# Altium footprint library Capacitors.PcbLib: 9 footprints
Each footprint in its own frame and in the unit in brackets; x right, y up, seen from the top. Pads: shape width x height; smd on the part's side, far side on the other; paste and mask are expansions set on the pad; w line width, h text height; cw(c..) or ccw(c..) is an arc to the next point about the centre after c.
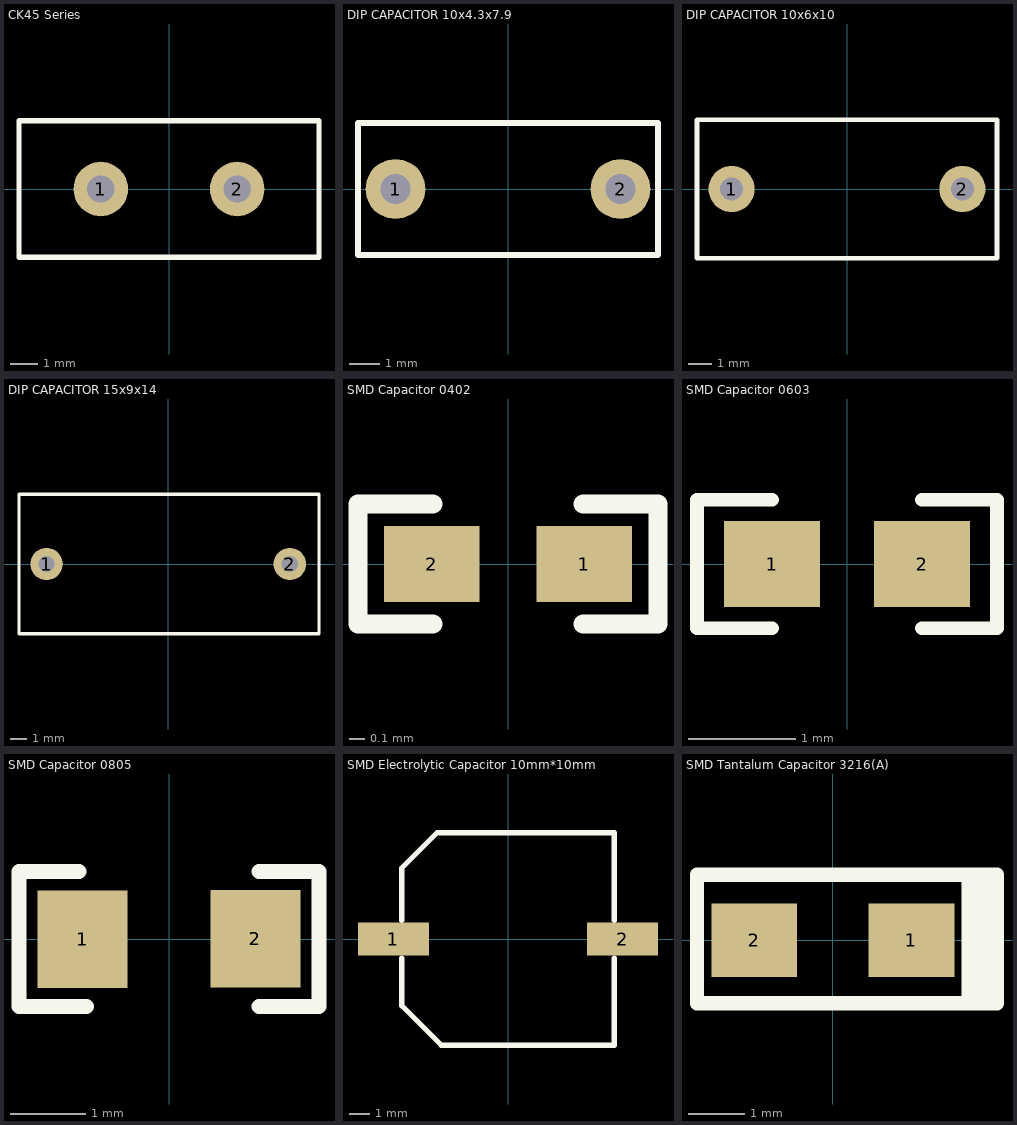
[diagram p0: the footprints below, top view; thin cyan lines are the x and y axes]

## CK45 Series [mm] "CK45 Series Pitch 5.0mm"
pads (2):
  round 2 hole 1: 1(-2.5,0) 2(2.5,0)
Top Overlay:
  lines w0.2: -5.5,-2.5 5.5,-2.5 5.5,2.5 -5.5,2.5 -5.5,-2.5
3D body "CK45 Series.STEP": height 12.5, standoff -5, extent -5.496,-2.5 5.497,2.5

## DIP CAPACITOR 10x4.3x7.9 [mm] "DIP 10x4.3x7.9"
pads (2):
  round 2 hole 1: 1(-3.75,0) 2(3.75,0)
Top Overlay:
  lines w0.2: -5,-2.2 5,-2.2 5,2.2 -5,2.2 -5,-2.2
3D body "DIP CAPACITOR 10x4.3x7.9.STEP": height 7.9, standoff -3, extent -5,-2.2 5,2.1

## DIP CAPACITOR 10x6x10 [mm] "DIP 10x6x10"
pads (2):
  round 2 hole 1: 1(-5,0) 2(5,0)
Top Overlay:
  lines w0.2: -6.5,-3 -6.5,3 6.5,3 6.5,-3 -6.5,-3
3D body "DIP CAPACITOR 10x6x10.STEP": height 10.92, standoff -3, extent -6.375,-3 6.375,3

## DIP CAPACITOR 15x9x14 [mm] "DIP 15x9x14"
pads (2):
  round 2 hole 1: 1(-7.5,0) 2(7.5,0)
Top Overlay:
  lines w0.2: -9.2,-4.3 9.3,-4.3 9.3,4.3 -9.2,4.3 -9.2,-4.3
3D body "DIP CAPACITOR 15x9x14.STEP": height 15.5, standoff -11, extent -9.246,-4.25 9.249,4.25

## SMD Capacitor 0402 [mil] "0402"
pads (2):
  rect 25x20 smd: 1(20,0) 2(-20,0)
Top Overlay:
  lines w5: -19.68,-15.75 -39.37,-15.75 -39.37,15.75 -19.68,15.75 ; 19.68,-15.75 39.37,-15.75 39.37,15.75 19.68,15.75
3D body "SMD Capacitor 0402.STEP": height 20.1, standoff 0, extent -19.99,-9.99 20.01,10.01

## SMD Capacitor 0603 [mm] "0603"
pads (2):
  rect 0.9x0.8 smd: 1(-0.7,0) 2(0.7,0)
Top Overlay:
  lines w0.127: -0.7,-0.6 -1.4,-0.6 -1.4,0.6 -0.7,0.6 ; 0.7,-0.6 1.4,-0.6 1.4,0.6 0.7,0.6
3D body "SMD Capacitor 0603.STEP": height 0.79, standoff 0, extent -1,-0.394 1,0.394

## SMD Capacitor 0805 [mm] "0805"
pads (2):
  rect 1.2x1.3 smd: 1(-1.152,-0.002) 2(1.152,0.002)
Top Overlay:
  lines w0.2: -2,-0.9 -1.1,-0.9 ; -2,0.9 -1.2,0.9 ; 1.2,-0.9 2,-0.9 ; 1.2,0.9 2,0.9
  lines w0.203: -2,-0.9 -2,0.9 ; 2,-0.9 2,0.9
3D body "SMD Capacitor 0805.STEP": height 0.79, standoff 0, extent -1.254,-0.622 1.254,0.622

## SMD Electrolytic Capacitor 10mm*10mm [mm] "10mm*10mm"
height 10
pads (2):
  rect 3.4x1.6 smd: 1(-5.5,0) 2(5.5,0)
Top Overlay:
  lines w0.254: -5.1,-0.909 -5.1,-3.2 -3.2,-5.1 5.1,-5.1 5.1,-0.909 ; -5.1,0.891 -5.1,3.4 -3.4,5.1 5.1,5.1 5.1,0.891
3D body "Electrolytic Capacitor SMD 10mmX10mm.STEP": height 10.5, standoff 0, extent -5.901,-5.25 5.899,5.25

## SMD Tantalum Capacitor 3216(A) [mil] "3216(A)"
pads (2):
  rect 60x51.18 smd: 1(55,0) 2(-55,0)
Top Overlay:
  lines w10: 94.09,-44.13 -80.12,-44.13 -95.12,-44.13 -95.12,45.87 -80.12,45.87 94.88,45.87 ; 99.88,-44.13 99.88,45.87 ; 104.88,-44.13 104.88,45.87 ; 109.88,-44.13 109.88,45.87 ; 94.88,45.87 114.88,45.87 114.88,-9.13 114.88,-44.13 94.88,-44.13 94.88,45.87
3D body "SMD Tantalum Capacitor 3216(A).STEP": height 70.87, standoff 0, extent -66.94,-35.44 66.92,35.42